# EAGLE library part FDC2114 (library custom_lib)
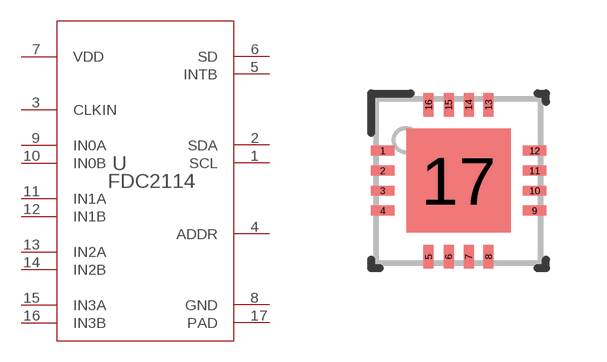
[diagram p0: symbol with the pads of RGH0016A; footprint RGH0016A]

Designator prefix U

## FDC2114 (APPLICATION_BUILDNUMBER: *; COMPTYPE: IC; MANUFACTURER: Texas Instruments; MOUNTTYPE: SMT; PACKAGEREFERENCE: RGH0016A; PARTNUMBER: FDC2114RGHR; PIN_COUNT: 17; REFDES: RefDes; ROHS: Y; TYPE: TYPE; VALUE: Value)  [RGH0016A]
1  SCL  in
2  SDA
3  CLKIN  in
4  ADDR  in
5  INTB  out
6  SD  in
7  VDD  pwr
8  GND  pwr
9  IN0A  in
10  IN0B  in
11  IN1A  in
12  IN1B  in
13  IN2A  in
14  IN2B  in
15  IN3A  in
16  IN3B  in
17  PAD  pwr

## Footprint RGH0016A (pad centres in mm)
smd 0.6 x 0.25: 1 -1.9,0.75; 2 -1.9,0.25; 3 -1.9,-0.25; 4 -1.9,-0.75; 9 1.9,-0.75; 10 1.9,-0.25; 11 1.9,0.25; 12 1.9,0.75
smd 0.25 x 0.6: 5 -0.75,-1.9; 6 -0.25,-1.9; 7 0.25,-1.9; 8 0.75,-1.9; 13 0.75,1.9; 14 0.25,1.9; 15 -0.25,1.9; 16 -0.75,1.9
smd 2.6 x 2.6: 17 0,0